# EAGLE library part ZX62-AB-5PA_MICRO-USB (library XMC4500_Relax-V1)
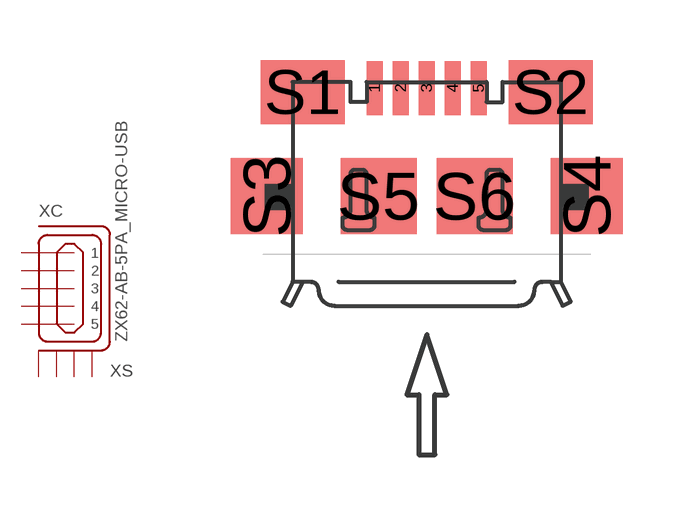
[diagram p3: symbol with the pads of ZX62-AB-5PA_MICRO-USB; footprint ZX62-AB-5PA_MICRO-USB]

Designator prefix X; gates C=MICRO-USB-5P S=SHIELD_4

## ZX62-AB-5PA_MICRO-USB  [ZX62-AB-5PA_MICRO-USB]
1  C:1  pas
2  C:2  pas
3  C:3  pas
4  C:4  pas
5  C:5  pas
S1  S:S1  pas
S2  S:S2  pas
S3  S:S3  pas
S4  S:S4  pas

## Footprint ZX62-AB-5PA_MICRO-USB (pad centres in mm)
smd 0.4 x 1.35: 1 -1.3,1.45; 2 -0.65,1.45; 3 0,1.45; 4 0.65,1.45; 5 1.3,1.45
smd 2.1 x 1.6: S1 -3.1,1.35; S2 3.1,1.35
smd 1.8 x 1.9: S3 -4,-1.25; S4 4,-1.25
smd 1.9 x 1.9: S5 -1.2,-1.25; S6 1.2,-1.25